# EAGLE library part ENC28J60 (library HyTechDevices)
ENC28J60 Stand-Alone Ethernet Controller with SPI Interface Datasheet <http://ww1.microchip.com/downloads/en/DeviceDoc/39662e.pdf>
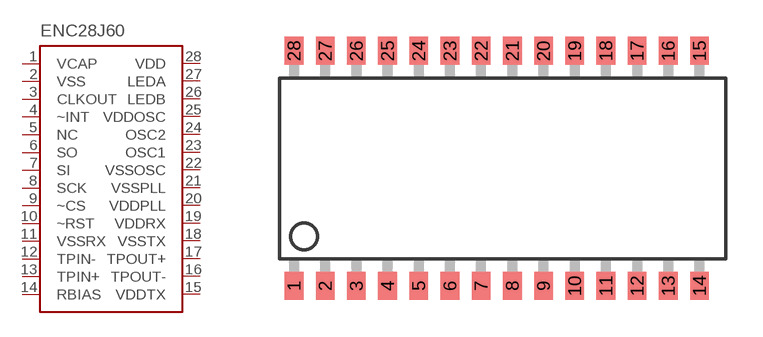
[diagram p55: symbol with the pads of SOIC-28W; footprint SOIC-28W]

Designator prefix -

## ENC28J60  [SOIC-28W]
1  VCAP
2  VSS
3  CLKOUT
4  ~INT
5  NC
6  SO
7  SI
8  SCK
9  ~CS
10  ~RST
11  VSSRX
12  TPIN-
13  TPIN+
14  RBIAS
15  VDDTX
16  TPOUT-
17  TPOUT+
18  VSSTX
19  VDDRX
20  VDDPLL
21  VSSPLL
22  VSSOSC
23  OSC1
24  OSC2
25  VDDOSC
26  LEDB
27  LEDA
28  VDD

## Footprint SOIC-28W (pad centres in mm)
Small Outline Integrated Circuit
smd 0.762 x 1.143: 1 -8.255,-4.788; 2 -6.985,-4.788; 3 -5.715,-4.788; 4 -4.445,-4.788; 5 -3.175,-4.788; 6 -1.905,-4.788; 7 -0.635,-4.788; 8 0.635,-4.788; 9 1.905,-4.788; 10 3.175,-4.788; 11 4.445,-4.788; 12 5.715,-4.788; 13 6.985,-4.788; 14 8.255,-4.788; 15 8.255,4.788; 16 6.985,4.788; 17 5.715,4.788; 18 4.445,4.788; 19 3.175,4.788; 20 1.905,4.788; 21 0.635,4.788; 22 -0.635,4.788; 23 -1.905,4.788; 24 -3.175,4.788; 25 -4.445,4.788; 26 -5.715,4.788; 27 -6.985,4.788; 28 -8.255,4.788